# EAGLE library part PDDL (library Picoradio1V1)
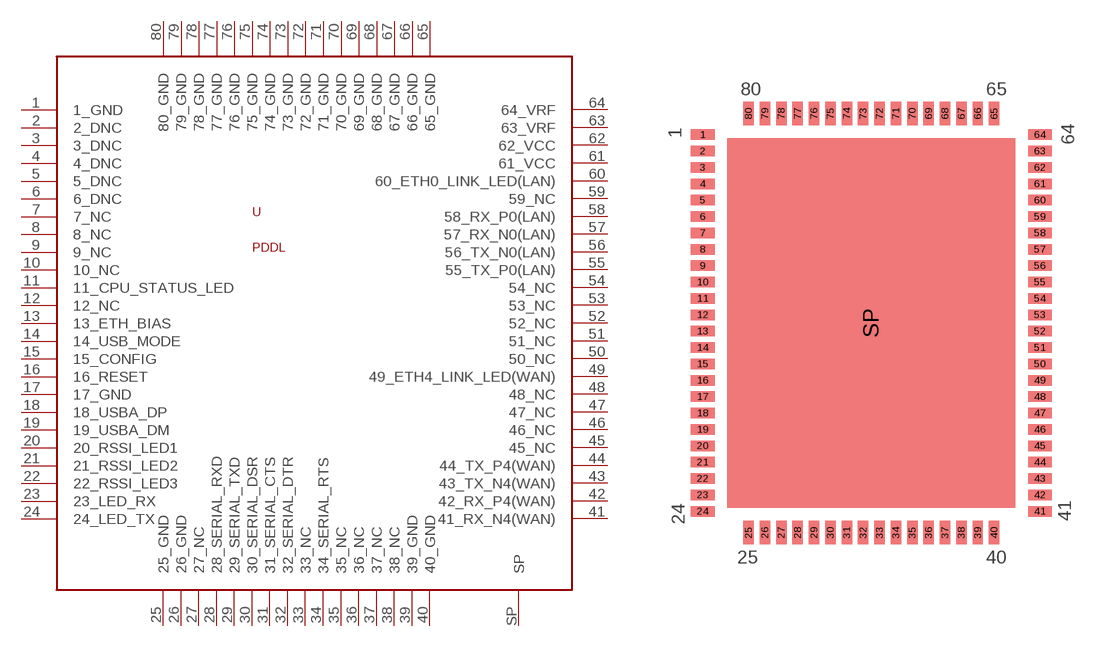
[diagram p9: symbol with the pads of PDDL; footprint PDDL]

Designator prefix U

## PDDL  [PDDL]
1  1_GND
2  2_DNC
3  3_DNC
4  4_DNC
5  5_DNC
6  6_DNC
7  7_NC
8  8_NC
9  9_NC
10  10_NC
11  11_CPU_STATUS_LED
12  12_NC
13  13_ETH_BIAS
14  14_USB_MODE
15  15_CONFIG
16  16_RESET
17  17_GND
18  18_USBA_DP
19  19_USBA_DM
20  20_RSSI_LED1
21  21_RSSI_LED2
22  22_RSSI_LED3
23  23_LED_RX
24  24_LED_TX
25  25_GND
26  26_GND
27  27_NC
28  28_SERIAL_RXD
29  29_SERIAL_TXD
30  30_SERIAL_DSR
31  31_SERIAL_CTS
32  32_SERIAL_DTR
33  33_NC
34  34_SERIAL_RTS
35  35_NC
36  36_NC
37  37_NC
38  38_NC
39  39_GND
40  40_GND
41  41_RX_N4(WAN)
42  42_RX_P4(WAN)
43  43_TX_N4(WAN)
44  44_TX_P4(WAN)
45  45_NC
46  46_NC
47  47_NC
48  48_NC
49  49_ETH4_LINK_LED(WAN)
50  50_NC
51  51_NC
52  52_NC
53  53_NC
54  54_NC
55  55_TX_P0(LAN)
56  56_TX_N0(LAN)
57  57_RX_N0(LAN)
58  58_RX_P0(LAN)
59  59_NC
60  60_ETH0_LINK_LED(LAN)
61  61_VCC
62  62_VCC
63  63_VRF
64  64_VRF
65  65_GND
66  66_GND
67  67_GND
68  68_GND
69  69_GND
70  70_GND
71  71_GND
72  72_GND
73  73_GND
74  74_GND
75  75_GND
76  76_GND
77  77_GND
78  78_GND
79  79_GND
80  80_GND
SP  SP

## Footprint PDDL (pad centres in mm)
smd 1.829 x 0.813: 1 -0.381,30.48; 2 -0.381,29.21; 3 -0.381,27.94; 4 -0.381,26.67; 5 -0.381,25.4; 6 -0.381,24.13; 7 -0.381,22.86; 8 -0.381,21.59; 9 -0.381,20.32; 10 -0.381,19.05; 11 -0.381,17.78; 12 -0.381,16.51; 13 -0.381,15.24; 14 -0.381,13.97; 15 -0.381,12.7; 16 -0.381,11.43; 17 -0.381,10.16; 18 -0.381,8.89; 19 -0.381,7.62; 20 -0.381,6.35; 21 -0.381,5.08; 22 -0.381,3.81; 23 -0.381,2.54; 24 -0.381,1.27; 41 25.781,1.27; 42 25.781,2.54; 43 25.781,3.81; 44 25.781,5.08; 45 25.781,6.35; 46 25.781,7.62; 47 25.781,8.89; 48 25.781,10.16; 49 25.781,11.43; 50 25.781,12.7; 51 25.781,13.97; 52 25.781,15.24; 53 25.781,16.51; 54 25.781,17.78; 55 25.781,19.05; 56 25.781,20.32; 57 25.781,21.59; 58 25.781,22.86; 59 25.781,24.13; 60 25.781,25.4; 61 25.781,26.67; 62 25.781,27.94; 63 25.781,29.21; 64 25.781,30.48
smd 0.813 x 1.829: 25 3.175,-0.381; 26 4.445,-0.381; 27 5.715,-0.381; 28 6.985,-0.381; 29 8.255,-0.381; 30 9.525,-0.381; 31 10.795,-0.381; 32 12.065,-0.381; 33 13.335,-0.381; 34 14.605,-0.381; 35 15.875,-0.381; 36 17.145,-0.381; 37 18.415,-0.381; 38 19.685,-0.381; 39 20.955,-0.381; 40 22.225,-0.381; 65 22.225,32.131; 66 20.955,32.131; 67 19.685,32.131; 68 18.415,32.131; 69 17.145,32.131; 70 15.875,32.131; 71 14.605,32.131; 72 13.335,32.131; 73 12.065,32.131; 74 10.795,32.131; 75 9.525,32.131; 76 8.255,32.131; 77 6.985,32.131; 78 5.715,32.131; 79 4.445,32.131; 80 3.175,32.131
smd 22.352 x 28.702: SP 12.7,15.875